# EAGLE library part QUECTEL_M12 (library gps-gsm)
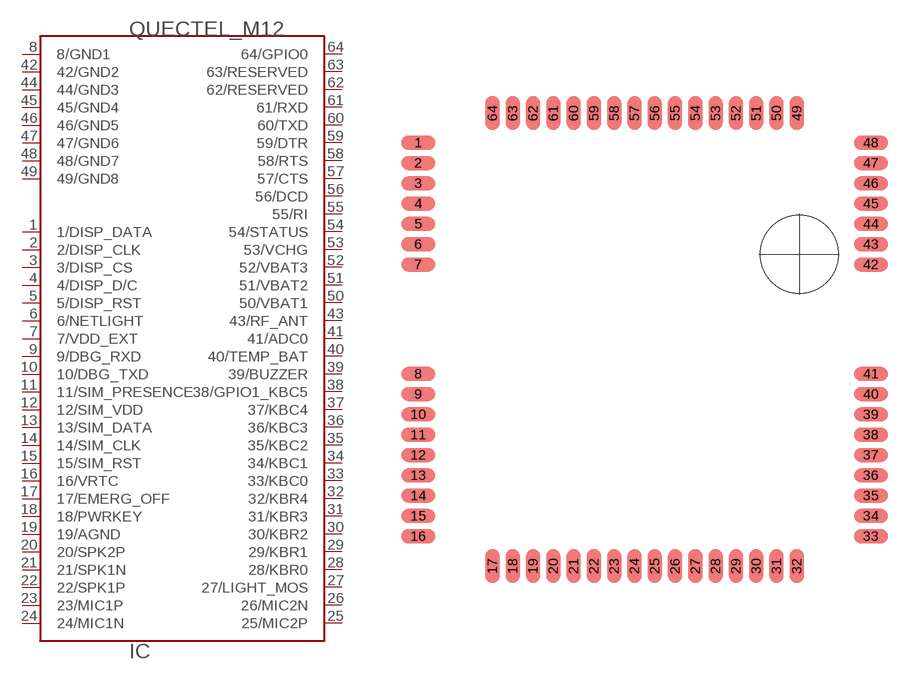
[diagram p24: symbol with the pads of QUECTEL_M12; footprint QUECTEL_M12]

Designator prefix IC

## QUECTEL_M12  [QUECTEL_M12]
1  1/DISP_DATA
2  2/DISP_CLK  out
3  3/DISP_CS  out
4  4/DISP_D/C  out
5  5/DISP_RST  out
6  6/NETLIGHT  out
7  7/VDD_EXT  out
8  8/GND1  pwr
9  9/DBG_RXD  in
10  10/DBG_TXD  out
11  11/SIM_PRESENCE  in
12  12/SIM_VDD  out
13  13/SIM_DATA
14  14/SIM_CLK  out
15  15/SIM_RST  out
16  16/VRTC
17  17/EMERG_OFF  in
18  18/PWRKEY  in
19  19/AGND  out
20  20/SPK2P  out
21  21/SPK1N  out
22  22/SPK1P  out
23  23/MIC1P  in
24  24/MIC1N  in
25  25/MIC2P  in
26  26/MIC2N  in
27  27/LIGHT_MOS  out
28  28/KBR0  out
29  29/KBR1  out
30  30/KBR2  out
31  31/KBR3  out
32  32/KBR4  out
33  33/KBC0  in
34  34/KBC1  in
35  35/KBC2  in
36  36/KBC3  in
37  37/KBC4  in
38  38/GPIO1_KBC5
39  39/BUZZER  out
40  40/TEMP_BAT  in
41  41/ADC0  in
42  42/GND2  pwr
43  43/RF_ANT
44  44/GND3  pwr
45  45/GND4  pwr
46  46/GND5  pwr
47  47/GND6  pwr
48  48/GND7  pwr
49  49/GND8  pwr
50  50/VBAT1  in
51  51/VBAT2  in
52  52/VBAT3  in
53  53/VCHG  in
54  54/STATUS  out
55  55/RI  out
56  56/DCD  out
57  57/CTS  out
58  58/RTS  in
59  59/DTR  in
60  60/TXD  out
61  61/RXD  in
62  62/RESERVED  nc
63  63/RESERVED  nc
64  64/GPIO0

## Footprint QUECTEL_M12 (pad centres in mm)
smd 2.2 x 0.9: 1 -14.5,12.6; 2 -14.5,11.3; 3 -14.5,10; 4 -14.5,8.7; 5 -14.5,7.4; 6 -14.5,6.1; 7 -14.5,4.8; 8 -14.5,-2.2; 9 -14.5,-3.5; 10 -14.5,-4.8; 11 -14.5,-6.1; 12 -14.5,-7.4; 13 -14.5,-8.7; 14 -14.5,-10; 15 -14.5,-11.3; 16 -14.5,-12.6; 33 14.5,-12.6; 34 14.5,-11.3; 35 14.5,-10; 36 14.5,-8.7; 37 14.5,-7.4; 38 14.5,-6.1; 39 14.5,-4.8; 40 14.5,-3.5; 41 14.5,-2.2; 42 14.5,4.8; 43 14.5,6.1; 44 14.5,7.4; 45 14.5,8.7; 46 14.5,10; 47 14.5,11.3; 48 14.5,12.6
smd 0.9 x 2.2: 17 -9.75,-14.5; 18 -8.45,-14.5; 19 -7.15,-14.5; 20 -5.85,-14.5; 21 -4.55,-14.5; 22 -3.25,-14.5; 23 -1.95,-14.5; 24 -0.65,-14.5; 25 0.65,-14.5; 26 1.95,-14.5; 27 3.25,-14.5; 28 4.55,-14.5; 29 5.85,-14.5; 30 7.15,-14.5; 31 8.45,-14.5; 32 9.75,-14.5; 49 9.75,14.5; 50 8.45,14.5; 51 7.15,14.5; 52 5.85,14.5; 53 4.55,14.5; 54 3.25,14.5; 55 1.95,14.5; 56 0.65,14.5; 57 -0.65,14.5; 58 -1.95,14.5; 59 -3.25,14.5; 60 -4.55,14.5; 61 -5.85,14.5; 62 -7.15,14.5; 63 -8.45,14.5; 64 -9.75,14.5
hole 5 at 9.9,5.46